# Altium schematic symbol library Net_Tie.SchLib: 1 symbol
Pins are listed as number, name and electrical type; pins without a type are passive.

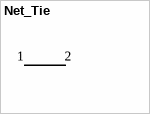
[diagram p0: symbol Net_Tie]

## Net_Tie
designator N?
Manufacturer_id: 1; idFuse: 3; Name: 3568 Mini Fuse Holder; Drawer_id: 1
pins: 1, 2